# Altium schematic symbol library ADA4961.SchLib: 1 symbol
Pins are listed as number, name and electrical type; pins without a type are passive.

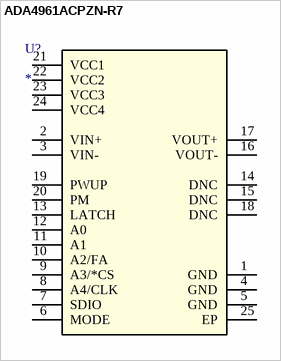
[diagram p0: symbol ADA4961ACPZN-R7]

## ADA4961ACPZN-R7
designator U?
Low Distortion, 3.2 GHz, RF DGA; Copyright: Copyright (C) 2018 Accelerated Designs. All rights reserved; RefDes: RefDes; Type: DEV; Value: Value
footprint CP_24_7
pins: 1 GND, 2 VIN+, 3 VIN-, 4 GND, 5 GND, 6 MODE, 7 SDIO, 8 A4/CLK, 9 A3/*CS, 10 A2/FA, 11 A1, 12 A0, 13 LATCH, 14 DNC, 15 DNC, 16 VOUT-, 17 VOUT+, 18 DNC, 19 PWUP, 20 PM, 21 VCC1, 22 VCC2, 23 VCC3, 24 VCC4, 25 EP